# Altium schematic symbol library RC0603.SchLib: 789 symbols (part 3 of 11)
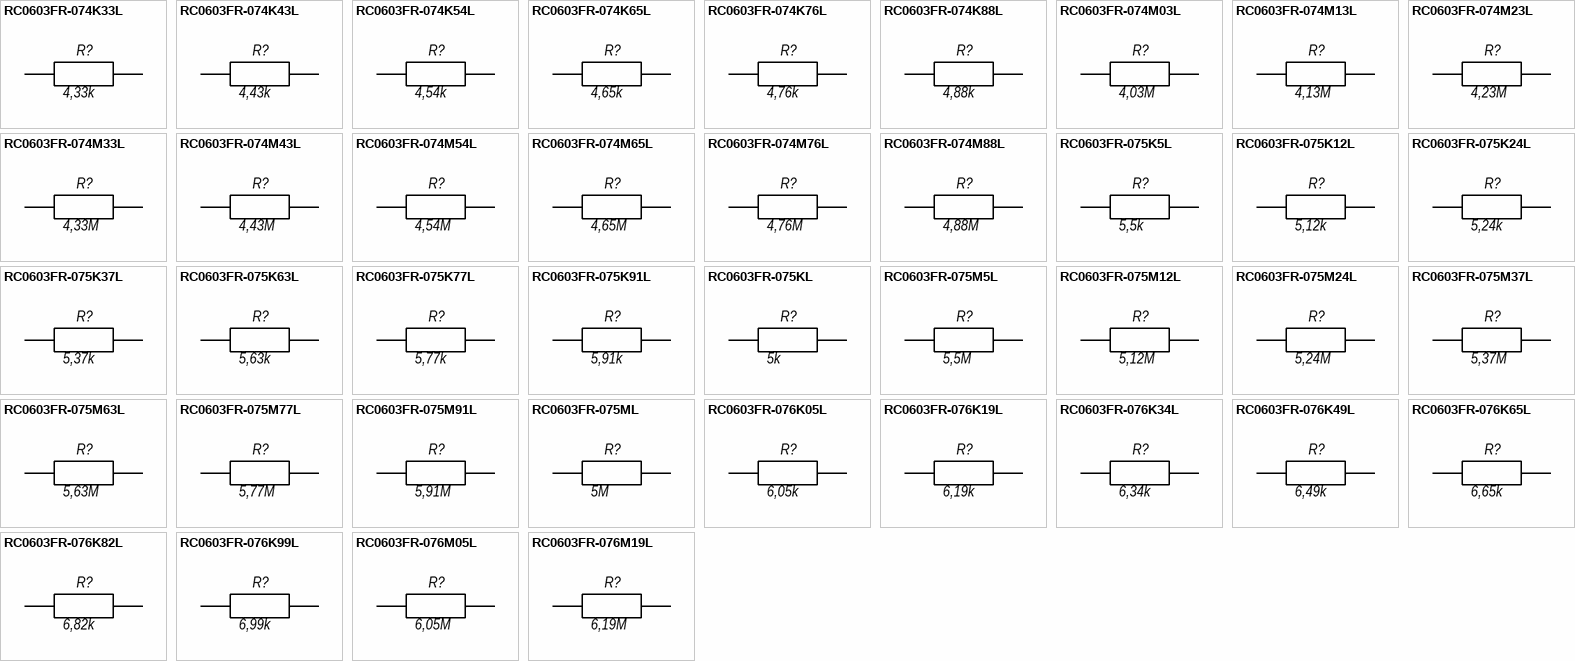
[diagram p21: symbols RC0603FR-074K33L to RC0603FR-076M19L]

## RC0603FR-076K49L
designator R?, comment 6,49k
RC0603FR-076K49L 0603 6.49 kOhm ±1% 1/10W 0603 SMD -55C...+155C; Manufacturer: Yageo; BOM2: 6,49 кОм ±1%, 1/10 Вт, SMD 0603, RC0603FR-076K49L; ValueBOM: RC0603FR-076K49L   Yageo                            (6,49 кОм ±1%, 1/10 Вт, SMD 0603, RC0603FR-076K49L); Value: 6,49k; Part Number: RC0603FR-076K49L; Package: 0603; BOM1: 6.49 kOhm ±1% 1/10W 0603 SMD
footprint RESC_0603_1608N (Chip Resistor, Body 1.6x0.8mm, IPC Medium Density)
footprint RESC_0603_1608M (Chip Resistor, Body 1.6x0.8mm, IPC Low Density)
footprint RESC_0603_1608L (Chip Resistor, Body 1.6x0.8mm, IPC High Density)
pins: 1, 2

## RC0603FR-076K65L
designator R?, comment 6,65k
RC0603FR-076K65L 0603 6.65 kOhm ±1% 1/10W 0603 SMD -55C...+155C; Manufacturer: Yageo; BOM2: 6,65 кОм ±1%, 1/10 Вт, SMD 0603, RC0603FR-076K65L; ValueBOM: RC0603FR-076K65L   Yageo                            (6,65 кОм ±1%, 1/10 Вт, SMD 0603, RC0603FR-076K65L); Value: 6,65k; Part Number: RC0603FR-076K65L; Package: 0603; BOM1: 6.65 kOhm ±1% 1/10W 0603 SMD
footprint RESC_0603_1608N (Chip Resistor, Body 1.6x0.8mm, IPC Medium Density)
footprint RESC_0603_1608M (Chip Resistor, Body 1.6x0.8mm, IPC Low Density)
footprint RESC_0603_1608L (Chip Resistor, Body 1.6x0.8mm, IPC High Density)
pins: 1, 2

## RC0603FR-076K82L
designator R?, comment 6,82k
RC0603FR-076K82L 0603 6.82 kOhm ±1% 1/10W 0603 SMD -55C...+155C; Manufacturer: Yageo; BOM2: 6,82 кОм ±1%, 1/10 Вт, SMD 0603, RC0603FR-076K82L; ValueBOM: RC0603FR-076K82L   Yageo                            (6,82 кОм ±1%, 1/10 Вт, SMD 0603, RC0603FR-076K82L); Value: 6,82k; Part Number: RC0603FR-076K82L; Package: 0603; BOM1: 6.82 kOhm ±1% 1/10W 0603 SMD
footprint RESC_0603_1608N (Chip Resistor, Body 1.6x0.8mm, IPC Medium Density)
footprint RESC_0603_1608M (Chip Resistor, Body 1.6x0.8mm, IPC Low Density)
footprint RESC_0603_1608L (Chip Resistor, Body 1.6x0.8mm, IPC High Density)
pins: 1, 2

## RC0603FR-076K99L
designator R?, comment 6,99k
RC0603FR-076K99L 0603 6.99 kOhm ±1% 1/10W 0603 SMD -55C...+155C; Manufacturer: Yageo; BOM2: 6,99 кОм ±1%, 1/10 Вт, SMD 0603, RC0603FR-076K99L; ValueBOM: RC0603FR-076K99L   Yageo                            (6,99 кОм ±1%, 1/10 Вт, SMD 0603, RC0603FR-076K99L); Value: 6,99k; Part Number: RC0603FR-076K99L; Package: 0603; BOM1: 6.99 kOhm ±1% 1/10W 0603 SMD
footprint RESC_0603_1608N (Chip Resistor, Body 1.6x0.8mm, IPC Medium Density)
footprint RESC_0603_1608M (Chip Resistor, Body 1.6x0.8mm, IPC Low Density)
footprint RESC_0603_1608L (Chip Resistor, Body 1.6x0.8mm, IPC High Density)
pins: 1, 2

## RC0603FR-076M05L
designator R?, comment 6,05M
RC0603FR-076M05L 0603 6.05 MOhm ±1% 1/10W 0603 SMD -55C...+155C; Manufacturer: Yageo; BOM2: 6,05 МОм ±1%, 1/10 Вт, SMD 0603, RC0603FR-076M05L; ValueBOM: RC0603FR-076M05L   Yageo                            (6,05 МОм ±1%, 1/10 Вт, SMD 0603, RC0603FR-076M05L); Value: 6,05M; Part Number: RC0603FR-076M05L; Package: 0603; BOM1: 6.05 MOhm ±1% 1/10W 0603 SMD
footprint RESC_0603_1608N (Chip Resistor, Body 1.6x0.8mm, IPC Medium Density)
footprint RESC_0603_1608M (Chip Resistor, Body 1.6x0.8mm, IPC Low Density)
footprint RESC_0603_1608L (Chip Resistor, Body 1.6x0.8mm, IPC High Density)
pins: 1, 2

## RC0603FR-076M19L
designator R?, comment 6,19M
RC0603FR-076M19L 0603 6.19 MOhm ±1% 1/10W 0603 SMD -55C...+155C; Manufacturer: Yageo; BOM2: 6,19 МОм ±1%, 1/10 Вт, SMD 0603, RC0603FR-076M19L; ValueBOM: RC0603FR-076M19L   Yageo                            (6,19 МОм ±1%, 1/10 Вт, SMD 0603, RC0603FR-076M19L); Value: 6,19M; Part Number: RC0603FR-076M19L; Package: 0603; BOM1: 6.19 MOhm ±1% 1/10W 0603 SMD
footprint RESC_0603_1608N (Chip Resistor, Body 1.6x0.8mm, IPC Medium Density)
footprint RESC_0603_1608M (Chip Resistor, Body 1.6x0.8mm, IPC Low Density)
footprint RESC_0603_1608L (Chip Resistor, Body 1.6x0.8mm, IPC High Density)
pins: 1, 2

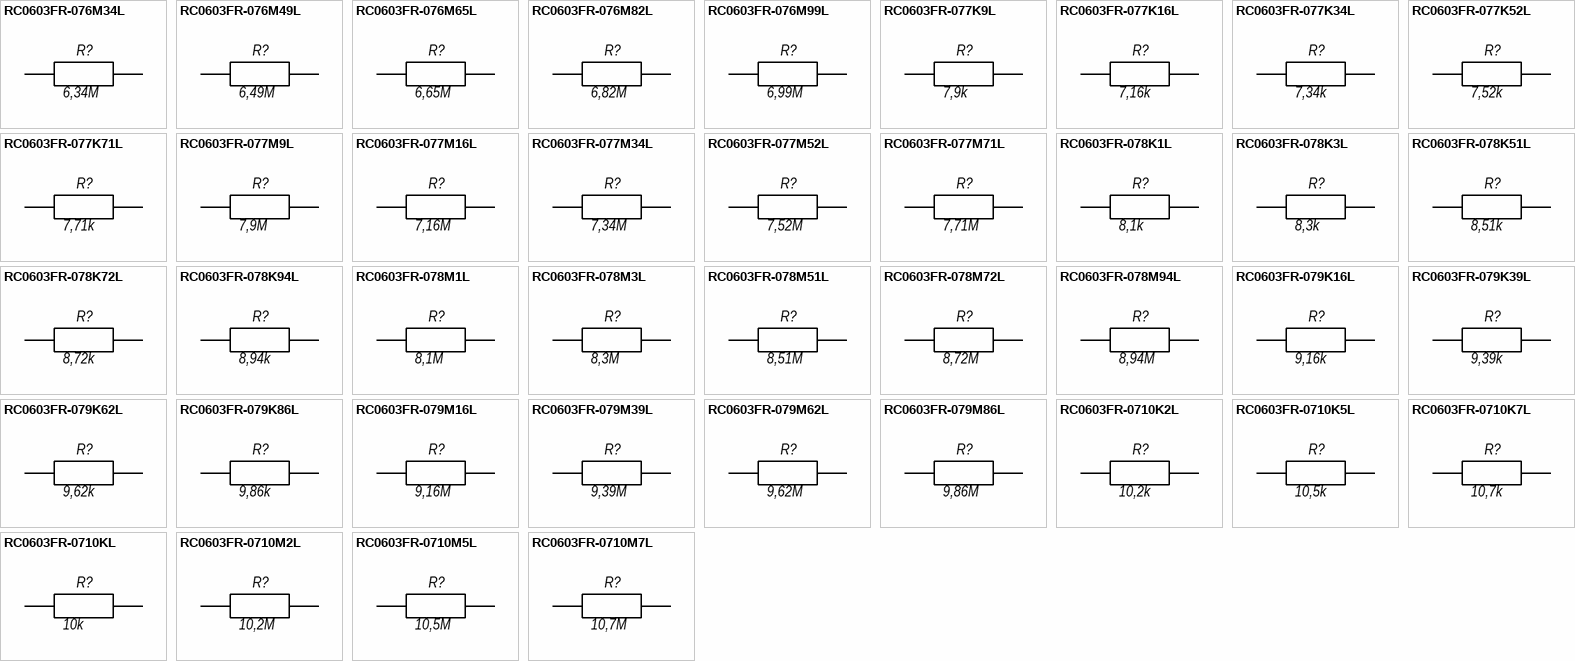
[diagram p4: symbols RC0603FR-076M34L to RC0603FR-0710M7L]

## RC0603FR-076M34L
designator R?, comment 6,34M
RC0603FR-076M34L 0603 6.34 MOhm ±1% 1/10W 0603 SMD -55C...+155C; Manufacturer: Yageo; BOM2: 6,34 МОм ±1%, 1/10 Вт, SMD 0603, RC0603FR-076M34L; ValueBOM: RC0603FR-076M34L   Yageo                            (6,34 МОм ±1%, 1/10 Вт, SMD 0603, RC0603FR-076M34L); Value: 6,34M; Part Number: RC0603FR-076M34L; Package: 0603; BOM1: 6.34 MOhm ±1% 1/10W 0603 SMD
footprint RESC_0603_1608N (Chip Resistor, Body 1.6x0.8mm, IPC Medium Density)
footprint RESC_0603_1608M (Chip Resistor, Body 1.6x0.8mm, IPC Low Density)
footprint RESC_0603_1608L (Chip Resistor, Body 1.6x0.8mm, IPC High Density)
pins: 1, 2

## RC0603FR-076M49L
designator R?, comment 6,49M
RC0603FR-076M49L 0603 6.49 MOhm ±1% 1/10W 0603 SMD -55C...+155C; Manufacturer: Yageo; BOM2: 6,49 МОм ±1%, 1/10 Вт, SMD 0603, RC0603FR-076M49L; ValueBOM: RC0603FR-076M49L   Yageo                            (6,49 МОм ±1%, 1/10 Вт, SMD 0603, RC0603FR-076M49L); Value: 6,49M; Part Number: RC0603FR-076M49L; Package: 0603; BOM1: 6.49 MOhm ±1% 1/10W 0603 SMD
footprint RESC_0603_1608N (Chip Resistor, Body 1.6x0.8mm, IPC Medium Density)
footprint RESC_0603_1608M (Chip Resistor, Body 1.6x0.8mm, IPC Low Density)
footprint RESC_0603_1608L (Chip Resistor, Body 1.6x0.8mm, IPC High Density)
pins: 1, 2

## RC0603FR-076M65L
designator R?, comment 6,65M
RC0603FR-076M65L 0603 6.65 MOhm ±1% 1/10W 0603 SMD -55C...+155C; Manufacturer: Yageo; BOM2: 6,65 МОм ±1%, 1/10 Вт, SMD 0603, RC0603FR-076M65L; ValueBOM: RC0603FR-076M65L   Yageo                            (6,65 МОм ±1%, 1/10 Вт, SMD 0603, RC0603FR-076M65L); Value: 6,65M; Part Number: RC0603FR-076M65L; Package: 0603; BOM1: 6.65 MOhm ±1% 1/10W 0603 SMD
footprint RESC_0603_1608N (Chip Resistor, Body 1.6x0.8mm, IPC Medium Density)
footprint RESC_0603_1608M (Chip Resistor, Body 1.6x0.8mm, IPC Low Density)
footprint RESC_0603_1608L (Chip Resistor, Body 1.6x0.8mm, IPC High Density)
pins: 1, 2

## RC0603FR-076M82L
designator R?, comment 6,82M
RC0603FR-076M82L 0603 6.82 MOhm ±1% 1/10W 0603 SMD -55C...+155C; Manufacturer: Yageo; BOM2: 6,82 МОм ±1%, 1/10 Вт, SMD 0603, RC0603FR-076M82L; ValueBOM: RC0603FR-076M82L   Yageo                            (6,82 МОм ±1%, 1/10 Вт, SMD 0603, RC0603FR-076M82L); Value: 6,82M; Part Number: RC0603FR-076M82L; Package: 0603; BOM1: 6.82 MOhm ±1% 1/10W 0603 SMD
footprint RESC_0603_1608N (Chip Resistor, Body 1.6x0.8mm, IPC Medium Density)
footprint RESC_0603_1608M (Chip Resistor, Body 1.6x0.8mm, IPC Low Density)
footprint RESC_0603_1608L (Chip Resistor, Body 1.6x0.8mm, IPC High Density)
pins: 1, 2

## RC0603FR-076M99L
designator R?, comment 6,99M
RC0603FR-076M99L 0603 6.99 MOhm ±1% 1/10W 0603 SMD -55C...+155C; Manufacturer: Yageo; BOM2: 6,99 МОм ±1%, 1/10 Вт, SMD 0603, RC0603FR-076M99L; ValueBOM: RC0603FR-076M99L   Yageo                            (6,99 МОм ±1%, 1/10 Вт, SMD 0603, RC0603FR-076M99L); Value: 6,99M; Part Number: RC0603FR-076M99L; Package: 0603; BOM1: 6.99 MOhm ±1% 1/10W 0603 SMD
footprint RESC_0603_1608N (Chip Resistor, Body 1.6x0.8mm, IPC Medium Density)
footprint RESC_0603_1608M (Chip Resistor, Body 1.6x0.8mm, IPC Low Density)
footprint RESC_0603_1608L (Chip Resistor, Body 1.6x0.8mm, IPC High Density)
pins: 1, 2

## RC0603FR-077K9L
designator R?, comment 7,9k
RC0603FR-077K9L 0603 7.9 kOhm ±1% 1/10W 0603 SMD -55C...+155C; Manufacturer: Yageo; BOM2: 7,9 кОм ±1%, 1/10 Вт, SMD 0603, RC0603FR-077K9L; ValueBOM: RC0603FR-077K9L   Yageo                            (7,9 кОм ±1%, 1/10 Вт, SMD 0603, RC0603FR-077K9L); Value: 7,9k; Part Number: RC0603FR-077K9L; Package: 0603; BOM1: 7.9 kOhm ±1% 1/10W 0603 SMD
footprint RESC_0603_1608N (Chip Resistor, Body 1.6x0.8mm, IPC Medium Density)
footprint RESC_0603_1608M (Chip Resistor, Body 1.6x0.8mm, IPC Low Density)
footprint RESC_0603_1608L (Chip Resistor, Body 1.6x0.8mm, IPC High Density)
pins: 1, 2

## RC0603FR-077K16L
designator R?, comment 7,16k
RC0603FR-077K16L 0603 7.16 kOhm ±1% 1/10W 0603 SMD -55C...+155C; Manufacturer: Yageo; BOM2: 7,16 кОм ±1%, 1/10 Вт, SMD 0603, RC0603FR-077K16L; ValueBOM: RC0603FR-077K16L   Yageo                            (7,16 кОм ±1%, 1/10 Вт, SMD 0603, RC0603FR-077K16L); Value: 7,16k; Part Number: RC0603FR-077K16L; Package: 0603; BOM1: 7.16 kOhm ±1% 1/10W 0603 SMD
footprint RESC_0603_1608N (Chip Resistor, Body 1.6x0.8mm, IPC Medium Density)
footprint RESC_0603_1608M (Chip Resistor, Body 1.6x0.8mm, IPC Low Density)
footprint RESC_0603_1608L (Chip Resistor, Body 1.6x0.8mm, IPC High Density)
pins: 1, 2

## RC0603FR-077K34L
designator R?, comment 7,34k
RC0603FR-077K34L 0603 7.34 kOhm ±1% 1/10W 0603 SMD -55C...+155C; Manufacturer: Yageo; BOM2: 7,34 кОм ±1%, 1/10 Вт, SMD 0603, RC0603FR-077K34L; ValueBOM: RC0603FR-077K34L   Yageo                            (7,34 кОм ±1%, 1/10 Вт, SMD 0603, RC0603FR-077K34L); Value: 7,34k; Part Number: RC0603FR-077K34L; Package: 0603; BOM1: 7.34 kOhm ±1% 1/10W 0603 SMD
footprint RESC_0603_1608N (Chip Resistor, Body 1.6x0.8mm, IPC Medium Density)
footprint RESC_0603_1608M (Chip Resistor, Body 1.6x0.8mm, IPC Low Density)
footprint RESC_0603_1608L (Chip Resistor, Body 1.6x0.8mm, IPC High Density)
pins: 1, 2

## RC0603FR-077K52L
designator R?, comment 7,52k
RC0603FR-077K52L 0603 7.52 kOhm ±1% 1/10W 0603 SMD -55C...+155C; Manufacturer: Yageo; BOM2: 7,52 кОм ±1%, 1/10 Вт, SMD 0603, RC0603FR-077K52L; ValueBOM: RC0603FR-077K52L   Yageo                            (7,52 кОм ±1%, 1/10 Вт, SMD 0603, RC0603FR-077K52L); Value: 7,52k; Part Number: RC0603FR-077K52L; Package: 0603; BOM1: 7.52 kOhm ±1% 1/10W 0603 SMD
footprint RESC_0603_1608N (Chip Resistor, Body 1.6x0.8mm, IPC Medium Density)
footprint RESC_0603_1608M (Chip Resistor, Body 1.6x0.8mm, IPC Low Density)
footprint RESC_0603_1608L (Chip Resistor, Body 1.6x0.8mm, IPC High Density)
pins: 1, 2

## RC0603FR-077K71L
designator R?, comment 7,71k
RC0603FR-077K71L 0603 7.71 kOhm ±1% 1/10W 0603 SMD -55C...+155C; Manufacturer: Yageo; BOM2: 7,71 кОм ±1%, 1/10 Вт, SMD 0603, RC0603FR-077K71L; ValueBOM: RC0603FR-077K71L   Yageo                            (7,71 кОм ±1%, 1/10 Вт, SMD 0603, RC0603FR-077K71L); Value: 7,71k; Part Number: RC0603FR-077K71L; Package: 0603; BOM1: 7.71 kOhm ±1% 1/10W 0603 SMD
footprint RESC_0603_1608N (Chip Resistor, Body 1.6x0.8mm, IPC Medium Density)
footprint RESC_0603_1608M (Chip Resistor, Body 1.6x0.8mm, IPC Low Density)
footprint RESC_0603_1608L (Chip Resistor, Body 1.6x0.8mm, IPC High Density)
pins: 1, 2

## RC0603FR-077M9L
designator R?, comment 7,9M
RC0603FR-077M9L 0603 7.9 MOhm ±1% 1/10W 0603 SMD -55C...+155C; Manufacturer: Yageo; BOM2: 7,9 МОм ±1%, 1/10 Вт, SMD 0603, RC0603FR-077M9L; ValueBOM: RC0603FR-077M9L   Yageo                            (7,9 МОм ±1%, 1/10 Вт, SMD 0603, RC0603FR-077M9L); Value: 7,9M; Part Number: RC0603FR-077M9L; Package: 0603; BOM1: 7.9 MOhm ±1% 1/10W 0603 SMD
footprint RESC_0603_1608N (Chip Resistor, Body 1.6x0.8mm, IPC Medium Density)
footprint RESC_0603_1608M (Chip Resistor, Body 1.6x0.8mm, IPC Low Density)
footprint RESC_0603_1608L (Chip Resistor, Body 1.6x0.8mm, IPC High Density)
pins: 1, 2

## RC0603FR-077M16L
designator R?, comment 7,16M
RC0603FR-077M16L 0603 7.16 MOhm ±1% 1/10W 0603 SMD -55C...+155C; Manufacturer: Yageo; BOM2: 7,16 МОм ±1%, 1/10 Вт, SMD 0603, RC0603FR-077M16L; ValueBOM: RC0603FR-077M16L   Yageo                            (7,16 МОм ±1%, 1/10 Вт, SMD 0603, RC0603FR-077M16L); Value: 7,16M; Part Number: RC0603FR-077M16L; Package: 0603; BOM1: 7.16 MOhm ±1% 1/10W 0603 SMD
footprint RESC_0603_1608N (Chip Resistor, Body 1.6x0.8mm, IPC Medium Density)
footprint RESC_0603_1608M (Chip Resistor, Body 1.6x0.8mm, IPC Low Density)
footprint RESC_0603_1608L (Chip Resistor, Body 1.6x0.8mm, IPC High Density)
pins: 1, 2

## RC0603FR-077M34L
designator R?, comment 7,34M
RC0603FR-077M34L 0603 7.34 MOhm ±1% 1/10W 0603 SMD -55C...+155C; Manufacturer: Yageo; BOM2: 7,34 МОм ±1%, 1/10 Вт, SMD 0603, RC0603FR-077M34L; ValueBOM: RC0603FR-077M34L   Yageo                            (7,34 МОм ±1%, 1/10 Вт, SMD 0603, RC0603FR-077M34L); Value: 7,34M; Part Number: RC0603FR-077M34L; Package: 0603; BOM1: 7.34 MOhm ±1% 1/10W 0603 SMD
footprint RESC_0603_1608N (Chip Resistor, Body 1.6x0.8mm, IPC Medium Density)
footprint RESC_0603_1608M (Chip Resistor, Body 1.6x0.8mm, IPC Low Density)
footprint RESC_0603_1608L (Chip Resistor, Body 1.6x0.8mm, IPC High Density)
pins: 1, 2

## RC0603FR-077M52L
designator R?, comment 7,52M
RC0603FR-077M52L 0603 7.52 MOhm ±1% 1/10W 0603 SMD -55C...+155C; Manufacturer: Yageo; BOM2: 7,52 МОм ±1%, 1/10 Вт, SMD 0603, RC0603FR-077M52L; ValueBOM: RC0603FR-077M52L   Yageo                            (7,52 МОм ±1%, 1/10 Вт, SMD 0603, RC0603FR-077M52L); Value: 7,52M; Part Number: RC0603FR-077M52L; Package: 0603; BOM1: 7.52 MOhm ±1% 1/10W 0603 SMD
footprint RESC_0603_1608N (Chip Resistor, Body 1.6x0.8mm, IPC Medium Density)
footprint RESC_0603_1608M (Chip Resistor, Body 1.6x0.8mm, IPC Low Density)
footprint RESC_0603_1608L (Chip Resistor, Body 1.6x0.8mm, IPC High Density)
pins: 1, 2

## RC0603FR-077M71L
designator R?, comment 7,71M
RC0603FR-077M71L 0603 7.71 MOhm ±1% 1/10W 0603 SMD -55C...+155C; Manufacturer: Yageo; BOM2: 7,71 МОм ±1%, 1/10 Вт, SMD 0603, RC0603FR-077M71L; ValueBOM: RC0603FR-077M71L   Yageo                            (7,71 МОм ±1%, 1/10 Вт, SMD 0603, RC0603FR-077M71L); Value: 7,71M; Part Number: RC0603FR-077M71L; Package: 0603; BOM1: 7.71 MOhm ±1% 1/10W 0603 SMD
footprint RESC_0603_1608N (Chip Resistor, Body 1.6x0.8mm, IPC Medium Density)
footprint RESC_0603_1608M (Chip Resistor, Body 1.6x0.8mm, IPC Low Density)
footprint RESC_0603_1608L (Chip Resistor, Body 1.6x0.8mm, IPC High Density)
pins: 1, 2

## RC0603FR-078K1L
designator R?, comment 8,1k
RC0603FR-078K1L 0603 8.1 kOhm ±1% 1/10W 0603 SMD -55C...+155C; Manufacturer: Yageo; BOM2: 8,1 кОм ±1%, 1/10 Вт, SMD 0603, RC0603FR-078K1L; ValueBOM: RC0603FR-078K1L   Yageo                            (8,1 кОм ±1%, 1/10 Вт, SMD 0603, RC0603FR-078K1L); Value: 8,1k; Part Number: RC0603FR-078K1L; Package: 0603; BOM1: 8.1 kOhm ±1% 1/10W 0603 SMD
footprint RESC_0603_1608N (Chip Resistor, Body 1.6x0.8mm, IPC Medium Density)
footprint RESC_0603_1608M (Chip Resistor, Body 1.6x0.8mm, IPC Low Density)
footprint RESC_0603_1608L (Chip Resistor, Body 1.6x0.8mm, IPC High Density)
pins: 1, 2

## RC0603FR-078K3L
designator R?, comment 8,3k
RC0603FR-078K3L 0603 8.3 kOhm ±1% 1/10W 0603 SMD -55C...+155C; Manufacturer: Yageo; BOM2: 8,3 кОм ±1%, 1/10 Вт, SMD 0603, RC0603FR-078K3L; ValueBOM: RC0603FR-078K3L   Yageo                            (8,3 кОм ±1%, 1/10 Вт, SMD 0603, RC0603FR-078K3L); Value: 8,3k; Part Number: RC0603FR-078K3L; Package: 0603; BOM1: 8.3 kOhm ±1% 1/10W 0603 SMD
footprint RESC_0603_1608N (Chip Resistor, Body 1.6x0.8mm, IPC Medium Density)
footprint RESC_0603_1608M (Chip Resistor, Body 1.6x0.8mm, IPC Low Density)
footprint RESC_0603_1608L (Chip Resistor, Body 1.6x0.8mm, IPC High Density)
pins: 1, 2

## RC0603FR-078K51L
designator R?, comment 8,51k
RC0603FR-078K51L 0603 8.51 kOhm ±1% 1/10W 0603 SMD -55C...+155C; Manufacturer: Yageo; BOM2: 8,51 кОм ±1%, 1/10 Вт, SMD 0603, RC0603FR-078K51L; ValueBOM: RC0603FR-078K51L   Yageo                            (8,51 кОм ±1%, 1/10 Вт, SMD 0603, RC0603FR-078K51L); Value: 8,51k; Part Number: RC0603FR-078K51L; Package: 0603; BOM1: 8.51 kOhm ±1% 1/10W 0603 SMD
footprint RESC_0603_1608N (Chip Resistor, Body 1.6x0.8mm, IPC Medium Density)
footprint RESC_0603_1608M (Chip Resistor, Body 1.6x0.8mm, IPC Low Density)
footprint RESC_0603_1608L (Chip Resistor, Body 1.6x0.8mm, IPC High Density)
pins: 1, 2

## RC0603FR-078K72L
designator R?, comment 8,72k
RC0603FR-078K72L 0603 8.72 kOhm ±1% 1/10W 0603 SMD -55C...+155C; Manufacturer: Yageo; BOM2: 8,72 кОм ±1%, 1/10 Вт, SMD 0603, RC0603FR-078K72L; ValueBOM: RC0603FR-078K72L   Yageo                            (8,72 кОм ±1%, 1/10 Вт, SMD 0603, RC0603FR-078K72L); Value: 8,72k; Part Number: RC0603FR-078K72L; Package: 0603; BOM1: 8.72 kOhm ±1% 1/10W 0603 SMD
footprint RESC_0603_1608N (Chip Resistor, Body 1.6x0.8mm, IPC Medium Density)
footprint RESC_0603_1608M (Chip Resistor, Body 1.6x0.8mm, IPC Low Density)
footprint RESC_0603_1608L (Chip Resistor, Body 1.6x0.8mm, IPC High Density)
pins: 1, 2

## RC0603FR-078K94L
designator R?, comment 8,94k
RC0603FR-078K94L 0603 8.94 kOhm ±1% 1/10W 0603 SMD -55C...+155C; Manufacturer: Yageo; BOM2: 8,94 кОм ±1%, 1/10 Вт, SMD 0603, RC0603FR-078K94L; ValueBOM: RC0603FR-078K94L   Yageo                            (8,94 кОм ±1%, 1/10 Вт, SMD 0603, RC0603FR-078K94L); Value: 8,94k; Part Number: RC0603FR-078K94L; Package: 0603; BOM1: 8.94 kOhm ±1% 1/10W 0603 SMD
footprint RESC_0603_1608N (Chip Resistor, Body 1.6x0.8mm, IPC Medium Density)
footprint RESC_0603_1608M (Chip Resistor, Body 1.6x0.8mm, IPC Low Density)
footprint RESC_0603_1608L (Chip Resistor, Body 1.6x0.8mm, IPC High Density)
pins: 1, 2

## RC0603FR-078M1L
designator R?, comment 8,1M
RC0603FR-078M1L 0603 8.1 MOhm ±1% 1/10W 0603 SMD -55C...+155C; Manufacturer: Yageo; BOM2: 8,1 МОм ±1%, 1/10 Вт, SMD 0603, RC0603FR-078M1L; ValueBOM: RC0603FR-078M1L   Yageo                            (8,1 МОм ±1%, 1/10 Вт, SMD 0603, RC0603FR-078M1L); Value: 8,1M; Part Number: RC0603FR-078M1L; Package: 0603; BOM1: 8.1 MOhm ±1% 1/10W 0603 SMD
footprint RESC_0603_1608N (Chip Resistor, Body 1.6x0.8mm, IPC Medium Density)
footprint RESC_0603_1608M (Chip Resistor, Body 1.6x0.8mm, IPC Low Density)
footprint RESC_0603_1608L (Chip Resistor, Body 1.6x0.8mm, IPC High Density)
pins: 1, 2

## RC0603FR-078M3L
designator R?, comment 8,3M
RC0603FR-078M3L 0603 8.3 MOhm ±1% 1/10W 0603 SMD -55C...+155C; Manufacturer: Yageo; BOM2: 8,3 МОм ±1%, 1/10 Вт, SMD 0603, RC0603FR-078M3L; ValueBOM: RC0603FR-078M3L   Yageo                            (8,3 МОм ±1%, 1/10 Вт, SMD 0603, RC0603FR-078M3L); Value: 8,3M; Part Number: RC0603FR-078M3L; Package: 0603; BOM1: 8.3 MOhm ±1% 1/10W 0603 SMD
footprint RESC_0603_1608N (Chip Resistor, Body 1.6x0.8mm, IPC Medium Density)
footprint RESC_0603_1608M (Chip Resistor, Body 1.6x0.8mm, IPC Low Density)
footprint RESC_0603_1608L (Chip Resistor, Body 1.6x0.8mm, IPC High Density)
pins: 1, 2

## RC0603FR-078M51L
designator R?, comment 8,51M
RC0603FR-078M51L 0603 8.51 MOhm ±1% 1/10W 0603 SMD -55C...+155C; Manufacturer: Yageo; BOM2: 8,51 МОм ±1%, 1/10 Вт, SMD 0603, RC0603FR-078M51L; ValueBOM: RC0603FR-078M51L   Yageo                            (8,51 МОм ±1%, 1/10 Вт, SMD 0603, RC0603FR-078M51L); Value: 8,51M; Part Number: RC0603FR-078M51L; Package: 0603; BOM1: 8.51 MOhm ±1% 1/10W 0603 SMD
footprint RESC_0603_1608N (Chip Resistor, Body 1.6x0.8mm, IPC Medium Density)
footprint RESC_0603_1608M (Chip Resistor, Body 1.6x0.8mm, IPC Low Density)
footprint RESC_0603_1608L (Chip Resistor, Body 1.6x0.8mm, IPC High Density)
pins: 1, 2

## RC0603FR-078M72L
designator R?, comment 8,72M
RC0603FR-078M72L 0603 8.72 MOhm ±1% 1/10W 0603 SMD -55C...+155C; Manufacturer: Yageo; BOM2: 8,72 МОм ±1%, 1/10 Вт, SMD 0603, RC0603FR-078M72L; ValueBOM: RC0603FR-078M72L   Yageo                            (8,72 МОм ±1%, 1/10 Вт, SMD 0603, RC0603FR-078M72L); Value: 8,72M; Part Number: RC0603FR-078M72L; Package: 0603; BOM1: 8.72 MOhm ±1% 1/10W 0603 SMD
footprint RESC_0603_1608N (Chip Resistor, Body 1.6x0.8mm, IPC Medium Density)
footprint RESC_0603_1608M (Chip Resistor, Body 1.6x0.8mm, IPC Low Density)
footprint RESC_0603_1608L (Chip Resistor, Body 1.6x0.8mm, IPC High Density)
pins: 1, 2

## RC0603FR-078M94L
designator R?, comment 8,94M
RC0603FR-078M94L 0603 8.94 MOhm ±1% 1/10W 0603 SMD -55C...+155C; Manufacturer: Yageo; BOM2: 8,94 МОм ±1%, 1/10 Вт, SMD 0603, RC0603FR-078M94L; ValueBOM: RC0603FR-078M94L   Yageo                            (8,94 МОм ±1%, 1/10 Вт, SMD 0603, RC0603FR-078M94L); Value: 8,94M; Part Number: RC0603FR-078M94L; Package: 0603; BOM1: 8.94 MOhm ±1% 1/10W 0603 SMD
footprint RESC_0603_1608N (Chip Resistor, Body 1.6x0.8mm, IPC Medium Density)
footprint RESC_0603_1608M (Chip Resistor, Body 1.6x0.8mm, IPC Low Density)
footprint RESC_0603_1608L (Chip Resistor, Body 1.6x0.8mm, IPC High Density)
pins: 1, 2

## RC0603FR-079K16L
designator R?, comment 9,16k
RC0603FR-079K16L 0603 9.16 kOhm ±1% 1/10W 0603 SMD -55C...+155C; Manufacturer: Yageo; BOM2: 9,16 кОм ±1%, 1/10 Вт, SMD 0603, RC0603FR-079K16L; ValueBOM: RC0603FR-079K16L   Yageo                            (9,16 кОм ±1%, 1/10 Вт, SMD 0603, RC0603FR-079K16L); Value: 9,16k; Part Number: RC0603FR-079K16L; Package: 0603; BOM1: 9.16 kOhm ±1% 1/10W 0603 SMD
footprint RESC_0603_1608N (Chip Resistor, Body 1.6x0.8mm, IPC Medium Density)
footprint RESC_0603_1608M (Chip Resistor, Body 1.6x0.8mm, IPC Low Density)
footprint RESC_0603_1608L (Chip Resistor, Body 1.6x0.8mm, IPC High Density)
pins: 1, 2

## RC0603FR-079K39L
designator R?, comment 9,39k
RC0603FR-079K39L 0603 9.39 kOhm ±1% 1/10W 0603 SMD -55C...+155C; Manufacturer: Yageo; BOM2: 9,39 кОм ±1%, 1/10 Вт, SMD 0603, RC0603FR-079K39L; ValueBOM: RC0603FR-079K39L   Yageo                            (9,39 кОм ±1%, 1/10 Вт, SMD 0603, RC0603FR-079K39L); Value: 9,39k; Part Number: RC0603FR-079K39L; Package: 0603; BOM1: 9.39 kOhm ±1% 1/10W 0603 SMD
footprint RESC_0603_1608N (Chip Resistor, Body 1.6x0.8mm, IPC Medium Density)
footprint RESC_0603_1608M (Chip Resistor, Body 1.6x0.8mm, IPC Low Density)
footprint RESC_0603_1608L (Chip Resistor, Body 1.6x0.8mm, IPC High Density)
pins: 1, 2

## RC0603FR-079K62L
designator R?, comment 9,62k
RC0603FR-079K62L 0603 9.62 kOhm ±1% 1/10W 0603 SMD -55C...+155C; Manufacturer: Yageo; BOM2: 9,62 кОм ±1%, 1/10 Вт, SMD 0603, RC0603FR-079K62L; ValueBOM: RC0603FR-079K62L   Yageo                            (9,62 кОм ±1%, 1/10 Вт, SMD 0603, RC0603FR-079K62L); Value: 9,62k; Part Number: RC0603FR-079K62L; Package: 0603; BOM1: 9.62 kOhm ±1% 1/10W 0603 SMD
footprint RESC_0603_1608N (Chip Resistor, Body 1.6x0.8mm, IPC Medium Density)
footprint RESC_0603_1608M (Chip Resistor, Body 1.6x0.8mm, IPC Low Density)
footprint RESC_0603_1608L (Chip Resistor, Body 1.6x0.8mm, IPC High Density)
pins: 1, 2

## RC0603FR-079K86L
designator R?, comment 9,86k
RC0603FR-079K86L 0603 9.86 kOhm ±1% 1/10W 0603 SMD -55C...+155C; Manufacturer: Yageo; BOM2: 9,86 кОм ±1%, 1/10 Вт, SMD 0603, RC0603FR-079K86L; ValueBOM: RC0603FR-079K86L   Yageo                            (9,86 кОм ±1%, 1/10 Вт, SMD 0603, RC0603FR-079K86L); Value: 9,86k; Part Number: RC0603FR-079K86L; Package: 0603; BOM1: 9.86 kOhm ±1% 1/10W 0603 SMD
footprint RESC_0603_1608N (Chip Resistor, Body 1.6x0.8mm, IPC Medium Density)
footprint RESC_0603_1608M (Chip Resistor, Body 1.6x0.8mm, IPC Low Density)
footprint RESC_0603_1608L (Chip Resistor, Body 1.6x0.8mm, IPC High Density)
pins: 1, 2

## RC0603FR-079M16L
designator R?, comment 9,16M
RC0603FR-079M16L 0603 9.16 MOhm ±1% 1/10W 0603 SMD -55C...+155C; Manufacturer: Yageo; BOM2: 9,16 МОм ±1%, 1/10 Вт, SMD 0603, RC0603FR-079M16L; ValueBOM: RC0603FR-079M16L   Yageo                            (9,16 МОм ±1%, 1/10 Вт, SMD 0603, RC0603FR-079M16L); Value: 9,16M; Part Number: RC0603FR-079M16L; Package: 0603; BOM1: 9.16 MOhm ±1% 1/10W 0603 SMD
footprint RESC_0603_1608N (Chip Resistor, Body 1.6x0.8mm, IPC Medium Density)
footprint RESC_0603_1608M (Chip Resistor, Body 1.6x0.8mm, IPC Low Density)
footprint RESC_0603_1608L (Chip Resistor, Body 1.6x0.8mm, IPC High Density)
pins: 1, 2

## RC0603FR-079M39L
designator R?, comment 9,39M
RC0603FR-079M39L 0603 9.39 MOhm ±1% 1/10W 0603 SMD -55C...+155C; Manufacturer: Yageo; BOM2: 9,39 МОм ±1%, 1/10 Вт, SMD 0603, RC0603FR-079M39L; ValueBOM: RC0603FR-079M39L   Yageo                            (9,39 МОм ±1%, 1/10 Вт, SMD 0603, RC0603FR-079M39L); Value: 9,39M; Part Number: RC0603FR-079M39L; Package: 0603; BOM1: 9.39 MOhm ±1% 1/10W 0603 SMD
footprint RESC_0603_1608N (Chip Resistor, Body 1.6x0.8mm, IPC Medium Density)
footprint RESC_0603_1608M (Chip Resistor, Body 1.6x0.8mm, IPC Low Density)
footprint RESC_0603_1608L (Chip Resistor, Body 1.6x0.8mm, IPC High Density)
pins: 1, 2

## RC0603FR-079M62L
designator R?, comment 9,62M
RC0603FR-079M62L 0603 9.62 MOhm ±1% 1/10W 0603 SMD -55C...+155C; Manufacturer: Yageo; BOM2: 9,62 МОм ±1%, 1/10 Вт, SMD 0603, RC0603FR-079M62L; ValueBOM: RC0603FR-079M62L   Yageo                            (9,62 МОм ±1%, 1/10 Вт, SMD 0603, RC0603FR-079M62L); Value: 9,62M; Part Number: RC0603FR-079M62L; Package: 0603; BOM1: 9.62 MOhm ±1% 1/10W 0603 SMD
footprint RESC_0603_1608N (Chip Resistor, Body 1.6x0.8mm, IPC Medium Density)
footprint RESC_0603_1608M (Chip Resistor, Body 1.6x0.8mm, IPC Low Density)
footprint RESC_0603_1608L (Chip Resistor, Body 1.6x0.8mm, IPC High Density)
pins: 1, 2

## RC0603FR-079M86L
designator R?, comment 9,86M
RC0603FR-079M86L 0603 9.86 MOhm ±1% 1/10W 0603 SMD -55C...+155C; Manufacturer: Yageo; BOM2: 9,86 МОм ±1%, 1/10 Вт, SMD 0603, RC0603FR-079M86L; ValueBOM: RC0603FR-079M86L   Yageo                            (9,86 МОм ±1%, 1/10 Вт, SMD 0603, RC0603FR-079M86L); Value: 9,86M; Part Number: RC0603FR-079M86L; Package: 0603; BOM1: 9.86 MOhm ±1% 1/10W 0603 SMD
footprint RESC_0603_1608N (Chip Resistor, Body 1.6x0.8mm, IPC Medium Density)
footprint RESC_0603_1608M (Chip Resistor, Body 1.6x0.8mm, IPC Low Density)
footprint RESC_0603_1608L (Chip Resistor, Body 1.6x0.8mm, IPC High Density)
pins: 1, 2

## RC0603FR-0710K2L
designator R?, comment 10,2k
RC0603FR-0710K2L 0603 10.2 kOhm ±1% 1/10W 0603 SMD -55C...+155C; Manufacturer: Yageo; BOM2: 10,2 кОм ±1%, 1/10 Вт, SMD 0603, RC0603FR-0710K2L; ValueBOM: RC0603FR-0710K2L   Yageo                            (10,2 кОм ±1%, 1/10 Вт, SMD 0603, RC0603FR-0710K2L); Value: 10,2k; Part Number: RC0603FR-0710K2L; Package: 0603; BOM1: 10.2 kOhm ±1% 1/10W 0603 SMD
footprint RESC_0603_1608N (Chip Resistor, Body 1.6x0.8mm, IPC Medium Density)
footprint RESC_0603_1608M (Chip Resistor, Body 1.6x0.8mm, IPC Low Density)
footprint RESC_0603_1608L (Chip Resistor, Body 1.6x0.8mm, IPC High Density)
pins: 1, 2

## RC0603FR-0710K5L
designator R?, comment 10,5k
RC0603FR-0710K5L 0603 10.5 kOhm ±1% 1/10W 0603 SMD -55C...+155C; Manufacturer: Yageo; BOM2: 10,5 кОм ±1%, 1/10 Вт, SMD 0603, RC0603FR-0710K5L; ValueBOM: RC0603FR-0710K5L   Yageo                            (10,5 кОм ±1%, 1/10 Вт, SMD 0603, RC0603FR-0710K5L); Value: 10,5k; Part Number: RC0603FR-0710K5L; Package: 0603; BOM1: 10.5 kOhm ±1% 1/10W 0603 SMD
footprint RESC_0603_1608N (Chip Resistor, Body 1.6x0.8mm, IPC Medium Density)
footprint RESC_0603_1608M (Chip Resistor, Body 1.6x0.8mm, IPC Low Density)
footprint RESC_0603_1608L (Chip Resistor, Body 1.6x0.8mm, IPC High Density)
pins: 1, 2

## RC0603FR-0710K7L
designator R?, comment 10,7k
RC0603FR-0710K7L 0603 10.7 kOhm ±1% 1/10W 0603 SMD -55C...+155C; Manufacturer: Yageo; BOM2: 10,7 кОм ±1%, 1/10 Вт, SMD 0603, RC0603FR-0710K7L; ValueBOM: RC0603FR-0710K7L   Yageo                            (10,7 кОм ±1%, 1/10 Вт, SMD 0603, RC0603FR-0710K7L); Value: 10,7k; Part Number: RC0603FR-0710K7L; Package: 0603; BOM1: 10.7 kOhm ±1% 1/10W 0603 SMD
footprint RESC_0603_1608N (Chip Resistor, Body 1.6x0.8mm, IPC Medium Density)
footprint RESC_0603_1608M (Chip Resistor, Body 1.6x0.8mm, IPC Low Density)
footprint RESC_0603_1608L (Chip Resistor, Body 1.6x0.8mm, IPC High Density)
pins: 1, 2

## RC0603FR-0710KL
designator R?, comment 10k
RC0603FR-0710KL 0603 10 kOhm ±1% 1/10W 0603 SMD -55C...+155C; Manufacturer: Yageo; BOM2: 10 кОм ±1%, 1/10 Вт, SMD 0603, RC0603FR-0710KL; ValueBOM: RC0603FR-0710KL   Yageo                            (10 кОм ±1%, 1/10 Вт, SMD 0603, RC0603FR-0710KL); Value: 10k; Part Number: RC0603FR-0710KL; Package: 0603; BOM1: 10 kOhm ±1% 1/10W 0603 SMD
footprint RESC_0603_1608N (Chip Resistor, Body 1.6x0.8mm, IPC Medium Density)
footprint RESC_0603_1608M (Chip Resistor, Body 1.6x0.8mm, IPC Low Density)
footprint RESC_0603_1608L (Chip Resistor, Body 1.6x0.8mm, IPC High Density)
pins: 1, 2

## RC0603FR-0710M2L
designator R?, comment 10,2M
RC0603FR-0710M2L 0603 10.2 MOhm ±1% 1/10W 0603 SMD -55C...+155C; Manufacturer: Yageo; BOM2: 10,2 МОм ±1%, 1/10 Вт, SMD 0603, RC0603FR-0710M2L; ValueBOM: RC0603FR-0710M2L   Yageo                            (10,2 МОм ±1%, 1/10 Вт, SMD 0603, RC0603FR-0710M2L); Value: 10,2M; Part Number: RC0603FR-0710M2L; Package: 0603; BOM1: 10.2 MOhm ±1% 1/10W 0603 SMD
footprint RESC_0603_1608N (Chip Resistor, Body 1.6x0.8mm, IPC Medium Density)
footprint RESC_0603_1608M (Chip Resistor, Body 1.6x0.8mm, IPC Low Density)
footprint RESC_0603_1608L (Chip Resistor, Body 1.6x0.8mm, IPC High Density)
pins: 1, 2

## RC0603FR-0710M5L
designator R?, comment 10,5M
RC0603FR-0710M5L 0603 10.5 MOhm ±1% 1/10W 0603 SMD -55C...+155C; Manufacturer: Yageo; BOM2: 10,5 МОм ±1%, 1/10 Вт, SMD 0603, RC0603FR-0710M5L; ValueBOM: RC0603FR-0710M5L   Yageo                            (10,5 МОм ±1%, 1/10 Вт, SMD 0603, RC0603FR-0710M5L); Value: 10,5M; Part Number: RC0603FR-0710M5L; Package: 0603; BOM1: 10.5 MOhm ±1% 1/10W 0603 SMD
footprint RESC_0603_1608N (Chip Resistor, Body 1.6x0.8mm, IPC Medium Density)
footprint RESC_0603_1608M (Chip Resistor, Body 1.6x0.8mm, IPC Low Density)
footprint RESC_0603_1608L (Chip Resistor, Body 1.6x0.8mm, IPC High Density)
pins: 1, 2

## RC0603FR-0710M7L
designator R?, comment 10,7M
RC0603FR-0710M7L 0603 10.7 MOhm ±1% 1/10W 0603 SMD -55C...+155C; Manufacturer: Yageo; BOM2: 10,7 МОм ±1%, 1/10 Вт, SMD 0603, RC0603FR-0710M7L; ValueBOM: RC0603FR-0710M7L   Yageo                            (10,7 МОм ±1%, 1/10 Вт, SMD 0603, RC0603FR-0710M7L); Value: 10,7M; Part Number: RC0603FR-0710M7L; Package: 0603; BOM1: 10.7 MOhm ±1% 1/10W 0603 SMD
footprint RESC_0603_1608N (Chip Resistor, Body 1.6x0.8mm, IPC Medium Density)
footprint RESC_0603_1608M (Chip Resistor, Body 1.6x0.8mm, IPC Low Density)
footprint RESC_0603_1608L (Chip Resistor, Body 1.6x0.8mm, IPC High Density)
pins: 1, 2

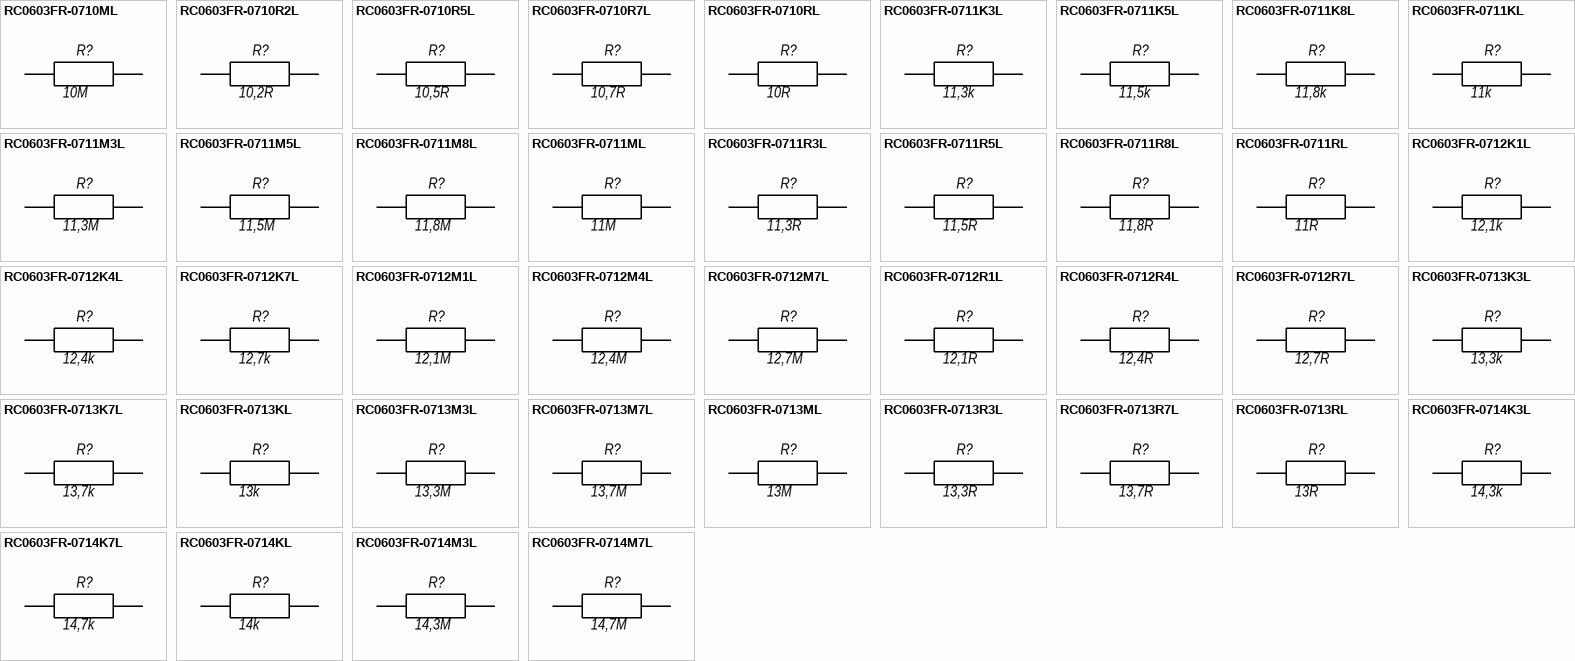
[diagram p5: symbols RC0603FR-0710ML to RC0603FR-0714M7L]

## RC0603FR-0710ML
designator R?, comment 10M
RC0603FR-0710ML 0603 10 MOhm ±1% 1/10W 0603 SMD -55C...+155C; Manufacturer: Yageo; BOM2: 10 MОм ±1%, 1/10 Вт, SMD 0603, RC0603FR-0710ML; ValueBOM: RC0603FR-0710ML   Yageo                            (10 MОм ±1%, 1/10 Вт, SMD 0603, RC0603FR-0710ML); Value: 10M; Part Number: RC0603FR-0710ML; Package: 0603; BOM1: 10 MOhm ±1% 1/10W 0603 SMD
footprint RESC_0603_1608N (Chip Resistor, Body 1.6x0.8mm, IPC Medium Density)
footprint RESC_0603_1608M (Chip Resistor, Body 1.6x0.8mm, IPC Low Density)
footprint RESC_0603_1608L (Chip Resistor, Body 1.6x0.8mm, IPC High Density)
pins: 1, 2

## RC0603FR-0710R2L
designator R?, comment 10,2R
RC0603FR-0710R2L 0603 10.2 Ohm ±1% 1/10W 0603 SMD -55C...+155C; Manufacturer: Yageo; BOM2: 10,2 Ом ±1%, 1/10 Вт, SMD 0603, RC0603FR-0710R2L; ValueBOM: RC0603FR-0710R2L   Yageo                            (10,2 Ом ±1%, 1/10 Вт, SMD 0603, RC0603FR-0710R2L); Value: 10,2R; Part Number: RC0603FR-0710R2L; Package: 0603; BOM1: 10.2 Ohm ±1% 1/10W 0603 SMD
footprint RESC_0603_1608N (Chip Resistor, Body 1.6x0.8mm, IPC Medium Density)
footprint RESC_0603_1608M (Chip Resistor, Body 1.6x0.8mm, IPC Low Density)
footprint RESC_0603_1608L (Chip Resistor, Body 1.6x0.8mm, IPC High Density)
pins: 1, 2

## RC0603FR-0710R5L
designator R?, comment 10,5R
RC0603FR-0710R5L 0603 10.5 Ohm ±1% 1/10W 0603 SMD -55C...+155C; Manufacturer: Yageo; BOM2: 10,5 Ом ±1%, 1/10 Вт, SMD 0603, RC0603FR-0710R5L; ValueBOM: RC0603FR-0710R5L   Yageo                            (10,5 Ом ±1%, 1/10 Вт, SMD 0603, RC0603FR-0710R5L); Value: 10,5R; Part Number: RC0603FR-0710R5L; Package: 0603; BOM1: 10.5 Ohm ±1% 1/10W 0603 SMD
footprint RESC_0603_1608N (Chip Resistor, Body 1.6x0.8mm, IPC Medium Density)
footprint RESC_0603_1608M (Chip Resistor, Body 1.6x0.8mm, IPC Low Density)
footprint RESC_0603_1608L (Chip Resistor, Body 1.6x0.8mm, IPC High Density)
pins: 1, 2

## RC0603FR-0710R7L
designator R?, comment 10,7R
RC0603FR-0710R7L 0603 10.7 Ohm ±1% 1/10W 0603 SMD -55C...+155C; Manufacturer: Yageo; BOM2: 10,7 Ом ±1%, 1/10 Вт, SMD 0603, RC0603FR-0710R7L; ValueBOM: RC0603FR-0710R7L   Yageo                            (10,7 Ом ±1%, 1/10 Вт, SMD 0603, RC0603FR-0710R7L); Value: 10,7R; Part Number: RC0603FR-0710R7L; Package: 0603; BOM1: 10.7 Ohm ±1% 1/10W 0603 SMD
footprint RESC_0603_1608N (Chip Resistor, Body 1.6x0.8mm, IPC Medium Density)
footprint RESC_0603_1608M (Chip Resistor, Body 1.6x0.8mm, IPC Low Density)
footprint RESC_0603_1608L (Chip Resistor, Body 1.6x0.8mm, IPC High Density)
pins: 1, 2

## RC0603FR-0710RL
designator R?, comment 10R
RC0603FR-0710RL 0603 10 Ohm ±1% 1/10W 0603 SMD -55C...+155C; Manufacturer: Yageo; BOM2: 10 Ом ±1%, 1/10 Вт, SMD 0603, RC0603FR-0710RL; ValueBOM: RC0603FR-0710RL   Yageo                            (10 Ом ±1%, 1/10 Вт, SMD 0603, RC0603FR-0710RL); Value: 10R; Part Number: RC0603FR-0710RL; Package: 0603; BOM1: 10 Ohm ±1% 1/10W 0603 SMD
footprint RESC_0603_1608N (Chip Resistor, Body 1.6x0.8mm, IPC Medium Density)
footprint RESC_0603_1608M (Chip Resistor, Body 1.6x0.8mm, IPC Low Density)
footprint RESC_0603_1608L (Chip Resistor, Body 1.6x0.8mm, IPC High Density)
pins: 1, 2

## RC0603FR-0711K3L
designator R?, comment 11,3k
RC0603FR-0711K3L 0603 11.3 kOhm ±1% 1/10W 0603 SMD -55C...+155C; Manufacturer: Yageo; BOM2: 11,3 кОм ±1%, 1/10 Вт, SMD 0603, RC0603FR-0711K3L; ValueBOM: RC0603FR-0711K3L   Yageo                            (11,3 кОм ±1%, 1/10 Вт, SMD 0603, RC0603FR-0711K3L); Value: 11,3k; Part Number: RC0603FR-0711K3L; Package: 0603; BOM1: 11.3 kOhm ±1% 1/10W 0603 SMD
footprint RESC_0603_1608N (Chip Resistor, Body 1.6x0.8mm, IPC Medium Density)
footprint RESC_0603_1608M (Chip Resistor, Body 1.6x0.8mm, IPC Low Density)
footprint RESC_0603_1608L (Chip Resistor, Body 1.6x0.8mm, IPC High Density)
pins: 1, 2

## RC0603FR-0711K5L
designator R?, comment 11,5k
RC0603FR-0711K5L 0603 11.5 kOhm ±1% 1/10W 0603 SMD -55C...+155C; Manufacturer: Yageo; BOM2: 11,5 кОм ±1%, 1/10 Вт, SMD 0603, RC0603FR-0711K5L; ValueBOM: RC0603FR-0711K5L   Yageo                            (11,5 кОм ±1%, 1/10 Вт, SMD 0603, RC0603FR-0711K5L); Value: 11,5k; Part Number: RC0603FR-0711K5L; Package: 0603; BOM1: 11.5 kOhm ±1% 1/10W 0603 SMD
footprint RESC_0603_1608N (Chip Resistor, Body 1.6x0.8mm, IPC Medium Density)
footprint RESC_0603_1608M (Chip Resistor, Body 1.6x0.8mm, IPC Low Density)
footprint RESC_0603_1608L (Chip Resistor, Body 1.6x0.8mm, IPC High Density)
pins: 1, 2

## RC0603FR-0711K8L
designator R?, comment 11,8k
RC0603FR-0711K8L 0603 11.8 kOhm ±1% 1/10W 0603 SMD -55C...+155C; Manufacturer: Yageo; BOM2: 11,8 кОм ±1%, 1/10 Вт, SMD 0603, RC0603FR-0711K8L; ValueBOM: RC0603FR-0711K8L   Yageo                            (11,8 кОм ±1%, 1/10 Вт, SMD 0603, RC0603FR-0711K8L); Value: 11,8k; Part Number: RC0603FR-0711K8L; Package: 0603; BOM1: 11.8 kOhm ±1% 1/10W 0603 SMD
footprint RESC_0603_1608N (Chip Resistor, Body 1.6x0.8mm, IPC Medium Density)
footprint RESC_0603_1608M (Chip Resistor, Body 1.6x0.8mm, IPC Low Density)
footprint RESC_0603_1608L (Chip Resistor, Body 1.6x0.8mm, IPC High Density)
pins: 1, 2

## RC0603FR-0711KL
designator R?, comment 11k
RC0603FR-0711KL 0603 11 kOhm ±1% 1/10W 0603 SMD -55C...+155C; Manufacturer: Yageo; BOM2: 11 кОм ±1%, 1/10 Вт, SMD 0603, RC0603FR-0711KL; ValueBOM: RC0603FR-0711KL   Yageo                            (11 кОм ±1%, 1/10 Вт, SMD 0603, RC0603FR-0711KL); Value: 11k; Part Number: RC0603FR-0711KL; Package: 0603; BOM1: 11 kOhm ±1% 1/10W 0603 SMD
footprint RESC_0603_1608N (Chip Resistor, Body 1.6x0.8mm, IPC Medium Density)
footprint RESC_0603_1608M (Chip Resistor, Body 1.6x0.8mm, IPC Low Density)
footprint RESC_0603_1608L (Chip Resistor, Body 1.6x0.8mm, IPC High Density)
pins: 1, 2

## RC0603FR-0711M3L
designator R?, comment 11,3M
RC0603FR-0711M3L 0603 11.3 MOhm ±1% 1/10W 0603 SMD -55C...+155C; Manufacturer: Yageo; BOM2: 11,3 МОм ±1%, 1/10 Вт, SMD 0603, RC0603FR-0711M3L; ValueBOM: RC0603FR-0711M3L   Yageo                            (11,3 МОм ±1%, 1/10 Вт, SMD 0603, RC0603FR-0711M3L); Value: 11,3M; Part Number: RC0603FR-0711M3L; Package: 0603; BOM1: 11.3 MOhm ±1% 1/10W 0603 SMD
footprint RESC_0603_1608N (Chip Resistor, Body 1.6x0.8mm, IPC Medium Density)
footprint RESC_0603_1608M (Chip Resistor, Body 1.6x0.8mm, IPC Low Density)
footprint RESC_0603_1608L (Chip Resistor, Body 1.6x0.8mm, IPC High Density)
pins: 1, 2

## RC0603FR-0711M5L
designator R?, comment 11,5M
RC0603FR-0711M5L 0603 11.5 MOhm ±1% 1/10W 0603 SMD -55C...+155C; Manufacturer: Yageo; BOM2: 11,5 МОм ±1%, 1/10 Вт, SMD 0603, RC0603FR-0711M5L; ValueBOM: RC0603FR-0711M5L   Yageo                            (11,5 МОм ±1%, 1/10 Вт, SMD 0603, RC0603FR-0711M5L); Value: 11,5M; Part Number: RC0603FR-0711M5L; Package: 0603; BOM1: 11.5 MOhm ±1% 1/10W 0603 SMD
footprint RESC_0603_1608N (Chip Resistor, Body 1.6x0.8mm, IPC Medium Density)
footprint RESC_0603_1608M (Chip Resistor, Body 1.6x0.8mm, IPC Low Density)
footprint RESC_0603_1608L (Chip Resistor, Body 1.6x0.8mm, IPC High Density)
pins: 1, 2

## RC0603FR-0711M8L
designator R?, comment 11,8M
RC0603FR-0711M8L 0603 11.8 MOhm ±1% 1/10W 0603 SMD -55C...+155C; Manufacturer: Yageo; BOM2: 11,8 МОм ±1%, 1/10 Вт, SMD 0603, RC0603FR-0711M8L; ValueBOM: RC0603FR-0711M8L   Yageo                            (11,8 МОм ±1%, 1/10 Вт, SMD 0603, RC0603FR-0711M8L); Value: 11,8M; Part Number: RC0603FR-0711M8L; Package: 0603; BOM1: 11.8 MOhm ±1% 1/10W 0603 SMD
footprint RESC_0603_1608N (Chip Resistor, Body 1.6x0.8mm, IPC Medium Density)
footprint RESC_0603_1608M (Chip Resistor, Body 1.6x0.8mm, IPC Low Density)
footprint RESC_0603_1608L (Chip Resistor, Body 1.6x0.8mm, IPC High Density)
pins: 1, 2

## RC0603FR-0711ML
designator R?, comment 11M
RC0603FR-0711ML 0603 11 MOhm ±1% 1/10W 0603 SMD -55C...+155C; Manufacturer: Yageo; BOM2: 11 MОм ±1%, 1/10 Вт, SMD 0603, RC0603FR-0711ML; ValueBOM: RC0603FR-0711ML   Yageo                            (11 MОм ±1%, 1/10 Вт, SMD 0603, RC0603FR-0711ML); Value: 11M; Part Number: RC0603FR-0711ML; Package: 0603; BOM1: 11 MOhm ±1% 1/10W 0603 SMD
footprint RESC_0603_1608N (Chip Resistor, Body 1.6x0.8mm, IPC Medium Density)
footprint RESC_0603_1608M (Chip Resistor, Body 1.6x0.8mm, IPC Low Density)
footprint RESC_0603_1608L (Chip Resistor, Body 1.6x0.8mm, IPC High Density)
pins: 1, 2

## RC0603FR-0711R3L
designator R?, comment 11,3R
RC0603FR-0711R3L 0603 11.3 Ohm ±1% 1/10W 0603 SMD -55C...+155C; Manufacturer: Yageo; BOM2: 11,3 Ом ±1%, 1/10 Вт, SMD 0603, RC0603FR-0711R3L; ValueBOM: RC0603FR-0711R3L   Yageo                            (11,3 Ом ±1%, 1/10 Вт, SMD 0603, RC0603FR-0711R3L); Value: 11,3R; Part Number: RC0603FR-0711R3L; Package: 0603; BOM1: 11.3 Ohm ±1% 1/10W 0603 SMD
footprint RESC_0603_1608N (Chip Resistor, Body 1.6x0.8mm, IPC Medium Density)
footprint RESC_0603_1608M (Chip Resistor, Body 1.6x0.8mm, IPC Low Density)
footprint RESC_0603_1608L (Chip Resistor, Body 1.6x0.8mm, IPC High Density)
pins: 1, 2

## RC0603FR-0711R5L
designator R?, comment 11,5R
RC0603FR-0711R5L 0603 11.5 Ohm ±1% 1/10W 0603 SMD -55C...+155C; Manufacturer: Yageo; BOM2: 11,5 Ом ±1%, 1/10 Вт, SMD 0603, RC0603FR-0711R5L; ValueBOM: RC0603FR-0711R5L   Yageo                            (11,5 Ом ±1%, 1/10 Вт, SMD 0603, RC0603FR-0711R5L); Value: 11,5R; Part Number: RC0603FR-0711R5L; Package: 0603; BOM1: 11.5 Ohm ±1% 1/10W 0603 SMD
footprint RESC_0603_1608N (Chip Resistor, Body 1.6x0.8mm, IPC Medium Density)
footprint RESC_0603_1608M (Chip Resistor, Body 1.6x0.8mm, IPC Low Density)
footprint RESC_0603_1608L (Chip Resistor, Body 1.6x0.8mm, IPC High Density)
pins: 1, 2

## RC0603FR-0711R8L
designator R?, comment 11,8R
RC0603FR-0711R8L 0603 11.8 Ohm ±1% 1/10W 0603 SMD -55C...+155C; Manufacturer: Yageo; BOM2: 11,8 Ом ±1%, 1/10 Вт, SMD 0603, RC0603FR-0711R8L; ValueBOM: RC0603FR-0711R8L   Yageo                            (11,8 Ом ±1%, 1/10 Вт, SMD 0603, RC0603FR-0711R8L); Value: 11,8R; Part Number: RC0603FR-0711R8L; Package: 0603; BOM1: 11.8 Ohm ±1% 1/10W 0603 SMD
footprint RESC_0603_1608N (Chip Resistor, Body 1.6x0.8mm, IPC Medium Density)
footprint RESC_0603_1608M (Chip Resistor, Body 1.6x0.8mm, IPC Low Density)
footprint RESC_0603_1608L (Chip Resistor, Body 1.6x0.8mm, IPC High Density)
pins: 1, 2

## RC0603FR-0711RL
designator R?, comment 11R
RC0603FR-0711RL 0603 11 Ohm ±1% 1/10W 0603 SMD -55C...+155C; Manufacturer: Yageo; BOM2: 11 Ом ±1%, 1/10 Вт, SMD 0603, RC0603FR-0711RL; ValueBOM: RC0603FR-0711RL   Yageo                            (11 Ом ±1%, 1/10 Вт, SMD 0603, RC0603FR-0711RL); Value: 11R; Part Number: RC0603FR-0711RL; Package: 0603; BOM1: 11 Ohm ±1% 1/10W 0603 SMD
footprint RESC_0603_1608N (Chip Resistor, Body 1.6x0.8mm, IPC Medium Density)
footprint RESC_0603_1608M (Chip Resistor, Body 1.6x0.8mm, IPC Low Density)
footprint RESC_0603_1608L (Chip Resistor, Body 1.6x0.8mm, IPC High Density)
pins: 1, 2

## RC0603FR-0712K1L
designator R?, comment 12,1k
RC0603FR-0712K1L 0603 12.1 kOhm ±1% 1/10W 0603 SMD -55C...+155C; Manufacturer: Yageo; BOM2: 12,1 кОм ±1%, 1/10 Вт, SMD 0603, RC0603FR-0712K1L; ValueBOM: RC0603FR-0712K1L   Yageo                            (12,1 кОм ±1%, 1/10 Вт, SMD 0603, RC0603FR-0712K1L); Value: 12,1k; Part Number: RC0603FR-0712K1L; Package: 0603; BOM1: 12.1 kOhm ±1% 1/10W 0603 SMD
footprint RESC_0603_1608N (Chip Resistor, Body 1.6x0.8mm, IPC Medium Density)
footprint RESC_0603_1608M (Chip Resistor, Body 1.6x0.8mm, IPC Low Density)
footprint RESC_0603_1608L (Chip Resistor, Body 1.6x0.8mm, IPC High Density)
pins: 1, 2

## RC0603FR-0712K4L
designator R?, comment 12,4k
RC0603FR-0712K4L 0603 12.4 kOhm ±1% 1/10W 0603 SMD -55C...+155C; Manufacturer: Yageo; BOM2: 12,4 кОм ±1%, 1/10 Вт, SMD 0603, RC0603FR-0712K4L; ValueBOM: RC0603FR-0712K4L   Yageo                            (12,4 кОм ±1%, 1/10 Вт, SMD 0603, RC0603FR-0712K4L); Value: 12,4k; Part Number: RC0603FR-0712K4L; Package: 0603; BOM1: 12.4 kOhm ±1% 1/10W 0603 SMD
footprint RESC_0603_1608N (Chip Resistor, Body 1.6x0.8mm, IPC Medium Density)
footprint RESC_0603_1608M (Chip Resistor, Body 1.6x0.8mm, IPC Low Density)
footprint RESC_0603_1608L (Chip Resistor, Body 1.6x0.8mm, IPC High Density)
pins: 1, 2

## RC0603FR-0712K7L
designator R?, comment 12,7k
RC0603FR-0712K7L 0603 12.7 kOhm ±1% 1/10W 0603 SMD -55C...+155C; Manufacturer: Yageo; BOM2: 12,7 кОм ±1%, 1/10 Вт, SMD 0603, RC0603FR-0712K7L; ValueBOM: RC0603FR-0712K7L   Yageo                            (12,7 кОм ±1%, 1/10 Вт, SMD 0603, RC0603FR-0712K7L); Value: 12,7k; Part Number: RC0603FR-0712K7L; Package: 0603; BOM1: 12.7 kOhm ±1% 1/10W 0603 SMD
footprint RESC_0603_1608N (Chip Resistor, Body 1.6x0.8mm, IPC Medium Density)
footprint RESC_0603_1608M (Chip Resistor, Body 1.6x0.8mm, IPC Low Density)
footprint RESC_0603_1608L (Chip Resistor, Body 1.6x0.8mm, IPC High Density)
pins: 1, 2

## RC0603FR-0712M1L
designator R?, comment 12,1M
RC0603FR-0712M1L 0603 12.1 MOhm ±1% 1/10W 0603 SMD -55C...+155C; Manufacturer: Yageo; BOM2: 12,1 МОм ±1%, 1/10 Вт, SMD 0603, RC0603FR-0712M1L; ValueBOM: RC0603FR-0712M1L   Yageo                            (12,1 МОм ±1%, 1/10 Вт, SMD 0603, RC0603FR-0712M1L); Value: 12,1M; Part Number: RC0603FR-0712M1L; Package: 0603; BOM1: 12.1 MOhm ±1% 1/10W 0603 SMD
footprint RESC_0603_1608N (Chip Resistor, Body 1.6x0.8mm, IPC Medium Density)
footprint RESC_0603_1608M (Chip Resistor, Body 1.6x0.8mm, IPC Low Density)
footprint RESC_0603_1608L (Chip Resistor, Body 1.6x0.8mm, IPC High Density)
pins: 1, 2

## RC0603FR-0712M4L
designator R?, comment 12,4M
RC0603FR-0712M4L 0603 12.4 MOhm ±1% 1/10W 0603 SMD -55C...+155C; Manufacturer: Yageo; BOM2: 12,4 МОм ±1%, 1/10 Вт, SMD 0603, RC0603FR-0712M4L; ValueBOM: RC0603FR-0712M4L   Yageo                            (12,4 МОм ±1%, 1/10 Вт, SMD 0603, RC0603FR-0712M4L); Value: 12,4M; Part Number: RC0603FR-0712M4L; Package: 0603; BOM1: 12.4 MOhm ±1% 1/10W 0603 SMD
footprint RESC_0603_1608N (Chip Resistor, Body 1.6x0.8mm, IPC Medium Density)
footprint RESC_0603_1608M (Chip Resistor, Body 1.6x0.8mm, IPC Low Density)
footprint RESC_0603_1608L (Chip Resistor, Body 1.6x0.8mm, IPC High Density)
pins: 1, 2

## RC0603FR-0712M7L
designator R?, comment 12,7M
RC0603FR-0712M7L 0603 12.7 MOhm ±1% 1/10W 0603 SMD -55C...+155C; Manufacturer: Yageo; BOM2: 12,7 МОм ±1%, 1/10 Вт, SMD 0603, RC0603FR-0712M7L; ValueBOM: RC0603FR-0712M7L   Yageo                            (12,7 МОм ±1%, 1/10 Вт, SMD 0603, RC0603FR-0712M7L); Value: 12,7M; Part Number: RC0603FR-0712M7L; Package: 0603; BOM1: 12.7 MOhm ±1% 1/10W 0603 SMD
footprint RESC_0603_1608N (Chip Resistor, Body 1.6x0.8mm, IPC Medium Density)
footprint RESC_0603_1608M (Chip Resistor, Body 1.6x0.8mm, IPC Low Density)
footprint RESC_0603_1608L (Chip Resistor, Body 1.6x0.8mm, IPC High Density)
pins: 1, 2

## RC0603FR-0712R1L
designator R?, comment 12,1R
RC0603FR-0712R1L 0603 12.1 Ohm ±1% 1/10W 0603 SMD -55C...+155C; Manufacturer: Yageo; BOM2: 12,1 Ом ±1%, 1/10 Вт, SMD 0603, RC0603FR-0712R1L; ValueBOM: RC0603FR-0712R1L   Yageo                            (12,1 Ом ±1%, 1/10 Вт, SMD 0603, RC0603FR-0712R1L); Value: 12,1R; Part Number: RC0603FR-0712R1L; Package: 0603; BOM1: 12.1 Ohm ±1% 1/10W 0603 SMD
footprint RESC_0603_1608N (Chip Resistor, Body 1.6x0.8mm, IPC Medium Density)
footprint RESC_0603_1608M (Chip Resistor, Body 1.6x0.8mm, IPC Low Density)
footprint RESC_0603_1608L (Chip Resistor, Body 1.6x0.8mm, IPC High Density)
pins: 1, 2

## RC0603FR-0712R4L
designator R?, comment 12,4R
RC0603FR-0712R4L 0603 12.4 Ohm ±1% 1/10W 0603 SMD -55C...+155C; Manufacturer: Yageo; BOM2: 12,4 Ом ±1%, 1/10 Вт, SMD 0603, RC0603FR-0712R4L; ValueBOM: RC0603FR-0712R4L   Yageo                            (12,4 Ом ±1%, 1/10 Вт, SMD 0603, RC0603FR-0712R4L); Value: 12,4R; Part Number: RC0603FR-0712R4L; Package: 0603; BOM1: 12.4 Ohm ±1% 1/10W 0603 SMD
footprint RESC_0603_1608N (Chip Resistor, Body 1.6x0.8mm, IPC Medium Density)
footprint RESC_0603_1608M (Chip Resistor, Body 1.6x0.8mm, IPC Low Density)
footprint RESC_0603_1608L (Chip Resistor, Body 1.6x0.8mm, IPC High Density)
pins: 1, 2

## RC0603FR-0712R7L
designator R?, comment 12,7R
RC0603FR-0712R7L 0603 12.7 Ohm ±1% 1/10W 0603 SMD -55C...+155C; Manufacturer: Yageo; BOM2: 12,7 Ом ±1%, 1/10 Вт, SMD 0603, RC0603FR-0712R7L; ValueBOM: RC0603FR-0712R7L   Yageo                            (12,7 Ом ±1%, 1/10 Вт, SMD 0603, RC0603FR-0712R7L); Value: 12,7R; Part Number: RC0603FR-0712R7L; Package: 0603; BOM1: 12.7 Ohm ±1% 1/10W 0603 SMD
footprint RESC_0603_1608N (Chip Resistor, Body 1.6x0.8mm, IPC Medium Density)
footprint RESC_0603_1608M (Chip Resistor, Body 1.6x0.8mm, IPC Low Density)
footprint RESC_0603_1608L (Chip Resistor, Body 1.6x0.8mm, IPC High Density)
pins: 1, 2

## RC0603FR-0713K3L
designator R?, comment 13,3k
RC0603FR-0713K3L 0603 13.3 kOhm ±1% 1/10W 0603 SMD -55C...+155C; Manufacturer: Yageo; BOM2: 13,3 кОм ±1%, 1/10 Вт, SMD 0603, RC0603FR-0713K3L; ValueBOM: RC0603FR-0713K3L   Yageo                            (13,3 кОм ±1%, 1/10 Вт, SMD 0603, RC0603FR-0713K3L); Value: 13,3k; Part Number: RC0603FR-0713K3L; Package: 0603; BOM1: 13.3 kOhm ±1% 1/10W 0603 SMD
footprint RESC_0603_1608N (Chip Resistor, Body 1.6x0.8mm, IPC Medium Density)
footprint RESC_0603_1608M (Chip Resistor, Body 1.6x0.8mm, IPC Low Density)
footprint RESC_0603_1608L (Chip Resistor, Body 1.6x0.8mm, IPC High Density)
pins: 1, 2

## RC0603FR-0713K7L
designator R?, comment 13,7k
RC0603FR-0713K7L 0603 13.7 kOhm ±1% 1/10W 0603 SMD -55C...+155C; Manufacturer: Yageo; BOM2: 13,7 кОм ±1%, 1/10 Вт, SMD 0603, RC0603FR-0713K7L; ValueBOM: RC0603FR-0713K7L   Yageo                            (13,7 кОм ±1%, 1/10 Вт, SMD 0603, RC0603FR-0713K7L); Value: 13,7k; Part Number: RC0603FR-0713K7L; Package: 0603; BOM1: 13.7 kOhm ±1% 1/10W 0603 SMD
footprint RESC_0603_1608N (Chip Resistor, Body 1.6x0.8mm, IPC Medium Density)
footprint RESC_0603_1608M (Chip Resistor, Body 1.6x0.8mm, IPC Low Density)
footprint RESC_0603_1608L (Chip Resistor, Body 1.6x0.8mm, IPC High Density)
pins: 1, 2

## RC0603FR-0713KL
designator R?, comment 13k
RC0603FR-0713KL 0603 13 kOhm ±1% 1/10W 0603 SMD -55C...+155C; Manufacturer: Yageo; BOM2: 13 кОм ±1%, 1/10 Вт, SMD 0603, RC0603FR-0713KL; ValueBOM: RC0603FR-0713KL   Yageo                            (13 кОм ±1%, 1/10 Вт, SMD 0603, RC0603FR-0713KL); Value: 13k; Part Number: RC0603FR-0713KL; Package: 0603; BOM1: 13 kOhm ±1% 1/10W 0603 SMD
footprint RESC_0603_1608N (Chip Resistor, Body 1.6x0.8mm, IPC Medium Density)
footprint RESC_0603_1608M (Chip Resistor, Body 1.6x0.8mm, IPC Low Density)
footprint RESC_0603_1608L (Chip Resistor, Body 1.6x0.8mm, IPC High Density)
pins: 1, 2

## RC0603FR-0713M3L
designator R?, comment 13,3M
RC0603FR-0713M3L 0603 13.3 MOhm ±1% 1/10W 0603 SMD -55C...+155C; Manufacturer: Yageo; BOM2: 13,3 МОм ±1%, 1/10 Вт, SMD 0603, RC0603FR-0713M3L; ValueBOM: RC0603FR-0713M3L   Yageo                            (13,3 МОм ±1%, 1/10 Вт, SMD 0603, RC0603FR-0713M3L); Value: 13,3M; Part Number: RC0603FR-0713M3L; Package: 0603; BOM1: 13.3 MOhm ±1% 1/10W 0603 SMD
footprint RESC_0603_1608N (Chip Resistor, Body 1.6x0.8mm, IPC Medium Density)
footprint RESC_0603_1608M (Chip Resistor, Body 1.6x0.8mm, IPC Low Density)
footprint RESC_0603_1608L (Chip Resistor, Body 1.6x0.8mm, IPC High Density)
pins: 1, 2

## RC0603FR-0713M7L
designator R?, comment 13,7M
RC0603FR-0713M7L 0603 13.7 MOhm ±1% 1/10W 0603 SMD -55C...+155C; Manufacturer: Yageo; BOM2: 13,7 МОм ±1%, 1/10 Вт, SMD 0603, RC0603FR-0713M7L; ValueBOM: RC0603FR-0713M7L   Yageo                            (13,7 МОм ±1%, 1/10 Вт, SMD 0603, RC0603FR-0713M7L); Value: 13,7M; Part Number: RC0603FR-0713M7L; Package: 0603; BOM1: 13.7 MOhm ±1% 1/10W 0603 SMD
footprint RESC_0603_1608N (Chip Resistor, Body 1.6x0.8mm, IPC Medium Density)
footprint RESC_0603_1608M (Chip Resistor, Body 1.6x0.8mm, IPC Low Density)
footprint RESC_0603_1608L (Chip Resistor, Body 1.6x0.8mm, IPC High Density)
pins: 1, 2